# Altium schematic symbol library SCH - CONNECTORS - BARREL CONNECTOR.SCHLIB: 1 symbol
Pins are listed as number, name and electrical type; pins without a type are passive.

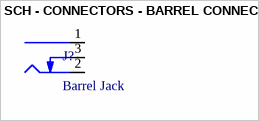
[diagram p0: symbol SCH - CONNECTORS - BARREL CONNECTOR]

## SCH - CONNECTORS - BARREL CONNECTOR
designator J?, comment Barrel Jack
pins: 1 Centre, 2 Outer, 3 SW